# Altium schematic symbol library AD8210.SchLib: 1 symbol
Pins are listed as number, name and electrical type; pins without a type are passive.

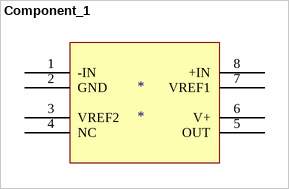
[diagram p0: symbol Component_1]

## Component_1
designator *
footprint AD8210
pins: 1 -IN, 2 GND, 3 VREF2, 4 NC, 5 OUT, 6 V+, 7 VREF1, 8 +IN